# Altium schematic symbol library Custom library.SchLib: 1 symbol
Pins are listed as number, name and electrical type; pins without a type are passive.

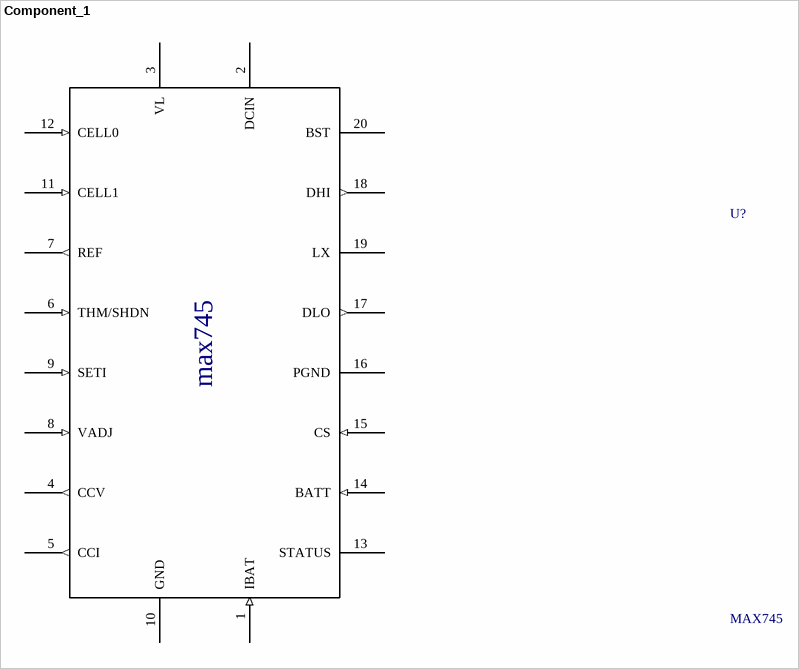
[diagram p0: symbol Component_1]

## Component_1
designator U?, comment MAX745
20 SSOP MAXIM Battery managment chip; DatasheetVersion: 19-1182; Rev 3; 10/01; PackageReference: 20 pin SSOP; PackageDescription: 20 pin SSOP package; ComponentLink1Description: https://www.maximintegrated.com/en/products/power/battery-management/MAX745.html; ComponentLink1URL: https://www.maximintegrated.com/; ComponentLink2Description: https://datasheets.maximintegrated.com/en/ds/MAX745.pdf
footprint 28P3 (DIP, 28-Leads, Row Spacing 7.62mm, Pitch 2.54mm, Body 34.67x7.3mm)
footprint MAX745 (20 pin SSOP Battery managment chip)
pins: 1 IBAT (in), 2 DCIN (power), 3 VL (power), 4 CCV (out), 5 CCI (out), 6 THM/SHDN (in), 7 REF (out), 8 VADJ (in), 9 SETI (in), 10 GND (power), 11 CELL1 (in), 12 CELL0 (in), 13 STATUS (oe), 14 BATT (in), 15 CS (in), 16 PGND (power), 17 DLO (out), 18 DHI (out), 19 LX (power), 20 BST (power)
text: max745